# Altium footprint library Push Button Switch SMD.PcbLib: 1 footprints
Each footprint in its own frame and in the unit in brackets; x right, y up, seen from the top. Pads: shape width x height; smd on the part's side, far side on the other; paste and mask are expansions set on the pad; w line width, h text height; cw(c..) or ccw(c..) is an arc to the next point about the centre after c.
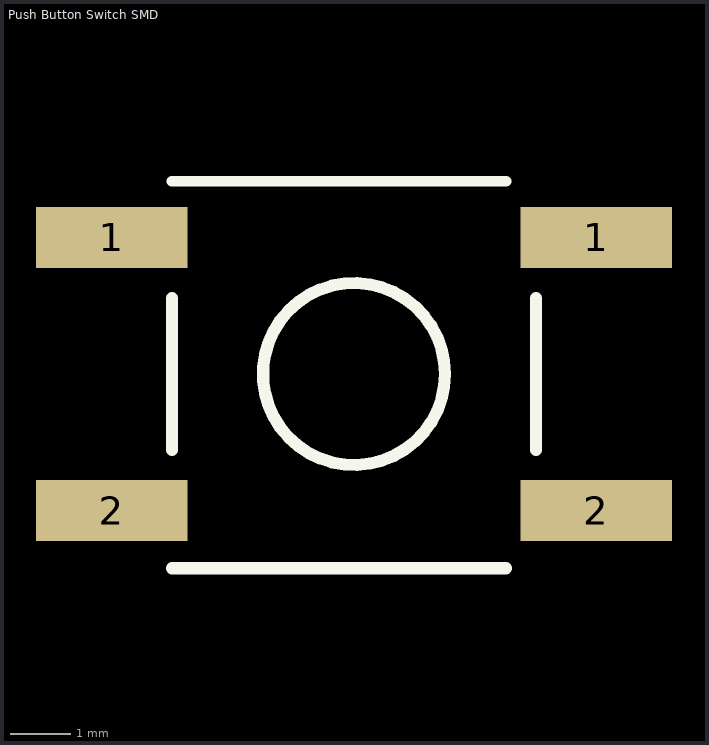
[diagram p0: the footprint, top view; thin cyan lines are the x and y axes]

## Push Button Switch SMD [mm]
pads (4):
  rect 2.5x1 smd: 1(24.479,29.555) 1(32.463,29.555) 2(24.479,25.055) 2(32.463,25.055)
Top Overlay:
  circle w0.2: c28.471,27.305 r1.5
  lines w0.178: 25.474,30.48 30.974,30.48
  lines w0.2: 25.471,26.055 25.471,28.555 ; 25.474,24.105 30.974,24.105 ; 31.471,26.055 31.471,28.555
3D body "SW3dPS-switch.STEP": height 5, standoff 0, extent 23.971,24.305 32.971,30.305